# Altium schematic symbol library LED Diode.SchLib: 5 symbols
Pins are listed as number, name and electrical type; pins without a type are passive.

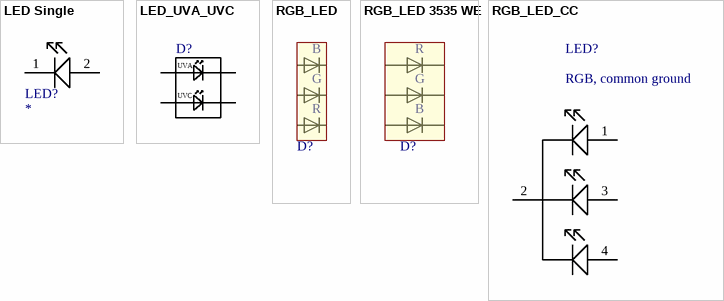
[diagram p0: symbols LED Single to RGB_LED_CC]

## LED Single
designator LED?  (value not drawn)
Color: *
footprint KPA-2106 (Kingbright)
pins: 1 K, 2 A

## LED_UVA_UVC
designator D?, comment UVA UVC LED 3535, Uf=3.6/6.5V, If=30mA  (value not drawn)
Manufacturer: NINGBO JUNSHENG ELECTRONICS CO.LTD.; Part Number: JSL-3535UVUAC; Price 1: 0; Price 100: 0; Price 1000: 0
footprint UVAUVC3535
pins: 1, 2, 3, 4
text: UVA; UVC

## RGB_LED
designator D?
footprint PLL6
pins: 1 BC, 2 GC, 3 RC, 4 RA, 5 GA, 6 BA
text: B; G; R

## RGB_LED 3535 WE
designator D?
WE 150353M153300
footprint 3535 (WE 150353M153300)
pins: 1 BA, 2 BC, 3 GA, 4 GC, 5 RA, 6 RC
text: R; G; B

## RGB_LED_CC
designator LED?, comment RGB, common ground
footprint RGB_LED_CC
pins: 1 A, 2 C, 3 A, 4 A